# Altium footprint library PPTC041LFBN-RC.PcbLib: 1 footprints
Each footprint in its own frame and in the unit in brackets; x right, y up, seen from the top. Pads: shape width x height; smd on the part's side, far side on the other; paste and mask are expansions set on the pad; w line width, h text height; cw(c..) or ccw(c..) is an arc to the next point about the centre after c.
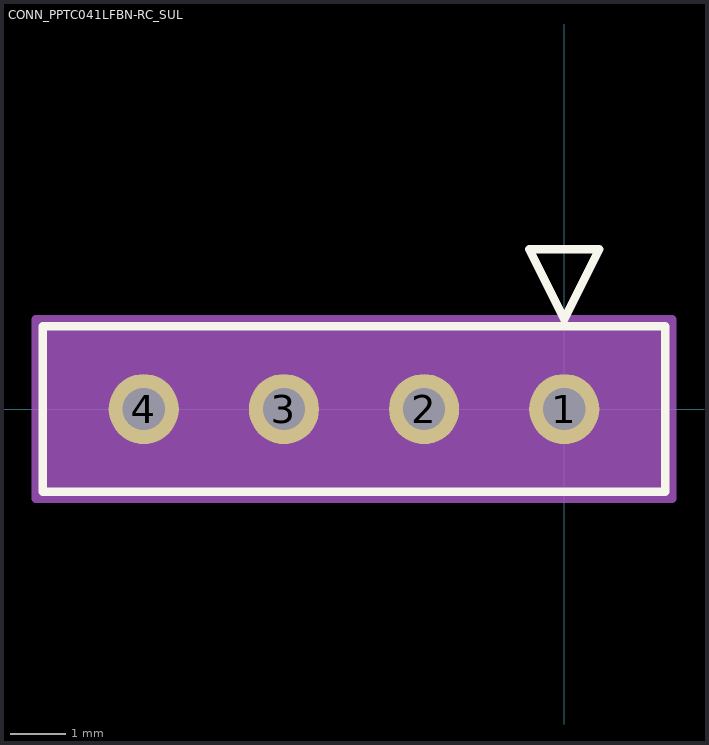
[diagram p0: the footprint, top view; thin cyan lines are the x and y axes]

## CONN_PPTC041LFBN-RC_SUL [mil]
pads (4):
  round 50 hole 30 paste-25 mask+0: 1(0,0) 2(-100,0) 3(-200,0) 4(-300,0)
Top Overlay:
  lines w6: -372,-59 72,-59 72,59 -372,59 -372,-59 ; -25,114 0,64 25,114 -25,114
  text ".Designator" at -287.5,-25 h50
Mechanical 13:
  lines w1: -367,-54 67,-54 67,54 -367,54 -367,-54 ; -25,114 0,64 25,114 -25,114
  text ".Designator" at -287.5,-25 h50
Mechanical 15:
  region: 77,64 -377,64 -377,-64 77,-64
  lines w6: -377,-64 -377,64 77,64 77,-64 -377,-64